# Altium schematic symbol library Project-HTLLib - Copy2.SCHLIB: 83 symbols (part 2 of 2)
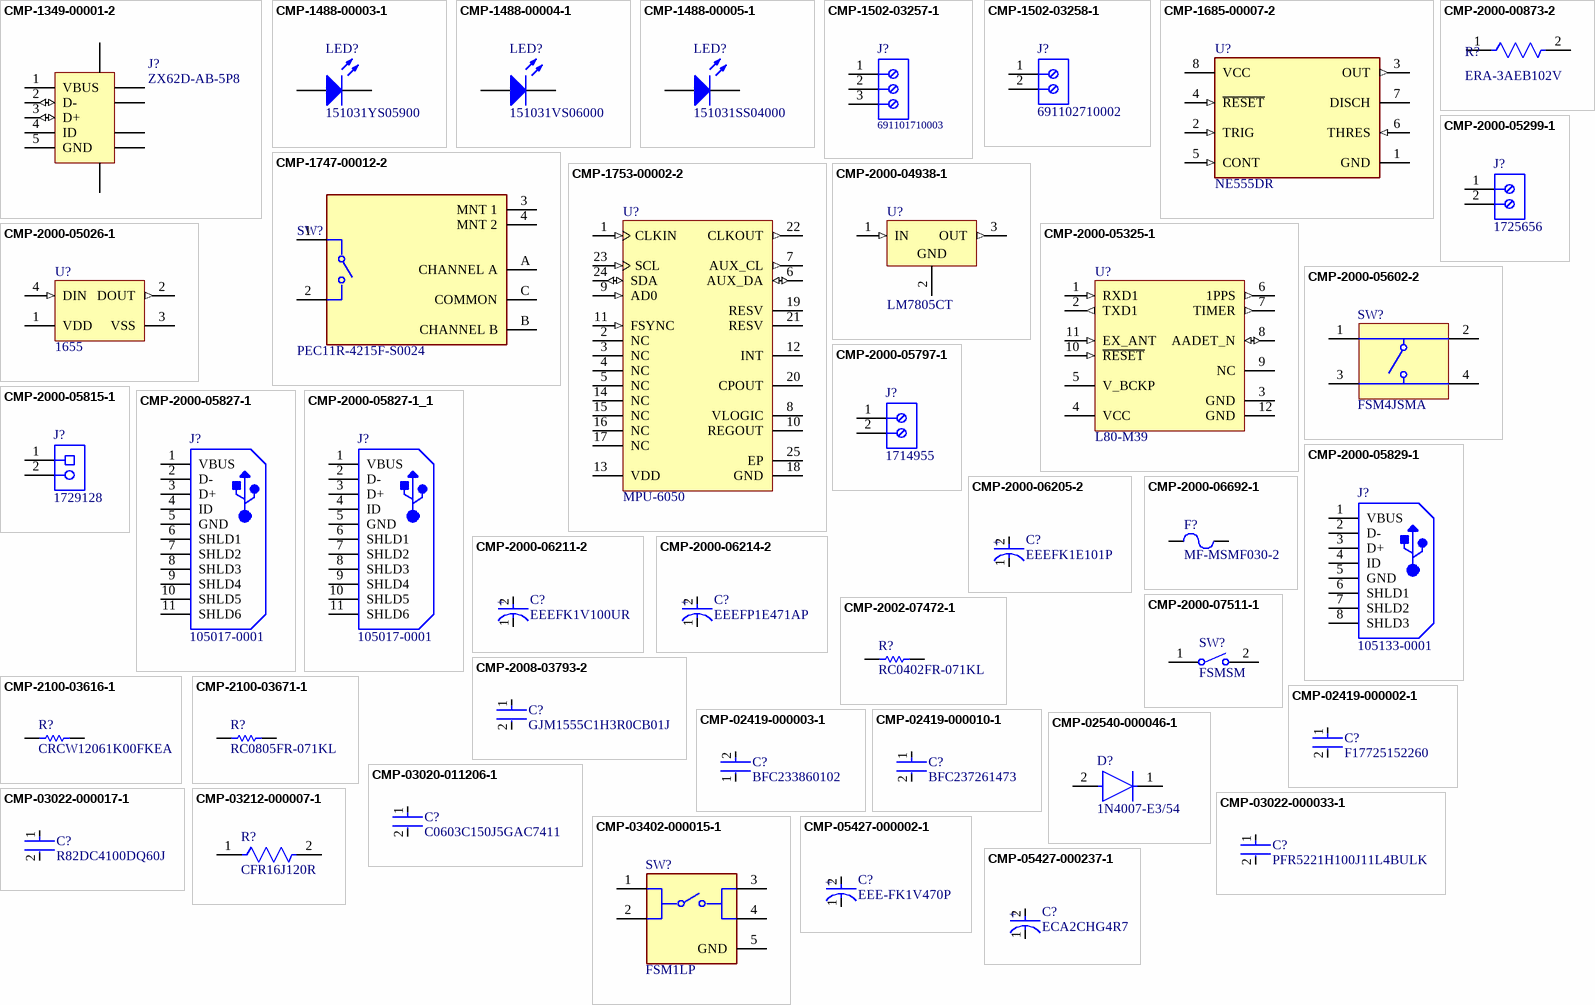
[diagram p3: symbols CMP-1349-00001-2 to CMP-05427-000237-1]

## CMP-2000-05325-1
designator U?, comment L80-M39
GPS Module L80 Hardware Design, 1575.42 MHz, 3 to 4.3 V, -40 to 85 degC, 12-Pin SMD, RoHS, Tape and Reel; Manufacturer: Quectel; Manufacturer: Quectel Wireless Solutions; Maximum Operating Supply Voltage: 4.3V; Screening Level: ExtendedIndustrial; Typical Operating Supply Voltage: 3.3V; Minimum Operating Supply Voltage: 3V; Manufacturer URL: http://www.quectel.com/; Mounting: SurfaceMount; Maximum Operating Frequency: 1575.42MHz; Datasheet Version: Rev. V1.1, 08/2013; Datasheet URL: http://www.quectel.com/uploadimage/downlad/l80_hardware_design_v1.1.pdf; Manufacturer Part Number: L80-M39
footprint QUEC-L80-M39-12_V (SMD, 12-Leads, Body 16x16mm, Pitch 2.54mm)
pins: 1 RXD1 (in) "Receive data", 2 TXD1 (out) "Transmit data", 3 GND (power), 4 VCC (power) "Main power supply", 5 V_BCKP (power) "Backup power supply", 6 1PPS (out) "One pulse per second", 7 TIMER (out) "An open drain output signal can be used to control GPS module main power on/off", 8 AADET_N (io) "Active antenna detection", 9 NC, 10 ~{RESET} (in) "System reset", 11 EX_ANT (in) "External active antenna RF input", 12 GND (power)

## CMP-2000-05602-2
designator SW?, comment FSM4JSMA
Swicth, SPST, 24 V, -35 to 85 degC, 4-Pin SMD, RoHS, Tape and Reel; Manufacturer: TE Connectivity; Switch Travel: 0.25mm; Mechanical Life: 100000Cycles; Contact Current Rating: 50mA; Operating Force: 1.57N; Actuator Material: Polyamide; Contact Resistance: 100mOhm; Voltage Rating: 24V; Illumination Type: Illuminated; Actuator Length: 0.055inch; Max Voltage Rating (DC): 12V; Case\/Package: SMD/SMT; Orientation: Straight; Datasheet URL: http://www.te.com/commerce/DocumentDelivery/DDEController?Action=showdoc&DocId=Customer+Drawing%7F2-1437565-7%7FV%7Fpdf%7FEnglish%7FENG_CD_2-1437565-7_V.pdf%7F4-1437565-2; Min Operating Temperature: -35degC; Packaging: LoosePiece; Termination: GullWing; Throw Configuration: SPST; Package Description: 4-Pin Surface Mount Device, Body 6 x 6 mm, Pitch 4.5 mm; Mounting Technology: SurfaceMount; Contact Plating: Silver; Datasheet Version: Rev. V, 02/2015; RoHSCompliant: true; Max Operating Temperature: 85degC; Length: 6mm; Voltage Rating (DC): 24V; Electrical Life: 100000Cycles; Current Rating: 50mA; Package Quantity: 750; Mount: SurfaceMount; Package Reference: FSM4JSMA; Manufacturer URL: http://www.te.com/; Width: 6mm; REACH SVHC: Unknown; Contact Material: CopperAlloy; Manufacturer Part Number: FSM4JSMA
footprint TECO-FSM4JSMA_V (SMD, 4-Leads, Body 6x6mm, Pitch 4.5mm)
pins: 1, 2, 3, 4

## CMP-2000-05797-1
designator J?, comment 1714955
PC Terminal Block, Pitch 6.35 mm, 1 x 2 Position, Height 21.5 mm, Tail Lenght 5.1 mm, RoHS, Bulk; Manufacturer: Phoenix Contact; Package Description: PC Terminal Block, Pitch 6.35 mm, 1 x 2 Position, Height 21.5 mm, Tail Lenght 5.1 mm; Datasheet URL: http://media.digikey.com/pdf/Data%20Sheets/Phoenix%20Contact%20PDFs/1714955.pdf; Package Reference: 1714955; Manufacturer URL: http://www.phoenixcontact.com/; Datasheet Version: 02/2010; Mounting Technology: ThroughHole; Manufacturer Part Number: 1714955
footprint PHOE-1714955_V (Terminal Block, 2-Leads, Body 12.7x12.5mm, Pitch 6.35mm)
pins: 1, 2

## CMP-2000-05815-1
designator J?, comment 1729128
PCB Terminal Block, 13.5 A, 400 V, 2-Pin THD, RoHS, Bulk; Manufacturer: Phoenix Contact; Package Version: 03/2015; No. of Rows: 1; Pitch: 5.08mm; No. of Positions: 2; Voltage Rating: 400V; Current Rating: 13500mA; Manufacturer URL: http://www.phoenixcontact.com/; Datasheet URL: https://datasheet.ciiva.com/16046/1729128-16046181.pdf; RoHS: TRUE; Package URL: https://www.phoenixcontact.com/online/portal/pi/pxc/product_detail_page/!ut/p/b1/3VdJjqNKFDxLH8AFycySyWY2ozFsEPOMMQaDOX1XedGL_1Vdm5YXJleknhSKeBkvI6EA8ncAo3AYoDhBQGco6KN7VURTdemj9us_IEKEZo_YHiPAEWEFmDGOHMORkqKYCORBZxgL7ZoaZYcbFFUZ3fqxSY6GOuxydWUuHqz1ynmMFygu583Bob0Ewr6Sd_l-5m-kAueHiB0jpRwZwe58wwtkpxtMYd_LmGcDRU02dRNEyWt6Y2ti5pSyJ_reIkzIulrqApdnbT11V5jnCKbYNCvhEM1MCpPByat_X379-iThf08CI5GfOPqfBeS3BRoBOdD55AKVv0iLwCMq-2BrzXWSGRH7pUGD9uwXQjiph3xL0DKQwdGa0JImiIOmBNOestqgwTHSSs2oOep-78apyXQBvNi8ZLaFjvjWvcaUEBu0MC6Wbe-d6mB0FAebo2lUWinqYaZs5DAYzV0RP9yitUjnGJ0iI9xhZkT42OCQNUJJhkgWINNQLP2JFP6OpMg3JCVg70jqHT0lvKOnhHf0lPuOnnLf0VPuWx6_dxwUIvwk5WMkT0kLL1mh61l2yZVSzG3pYV_bqo-mj6uMKwKwdnnW8Jh5RTOJzMOA5c-eJDaZQw4mTMPH02PvS_ZAqNVjVTo2WyYLkwH_KU1mmmG5kjRhDqPXLwwVHvVOjCM60-fpXvTDfMGW1PVFVS1r4e4yVDk4ZdNbkUHvqPqQSeian4UD39fNKmachqdJ1NJbyk8rXT9mXTvPk3oE5meulKGgiruPJek-4I9hTT6G8ZLOyRSm2RRVbThERQad5OS28hdt4YW4vG0stgYYzsWsK4_7y6DZMjJSCqri1kyiZR5vD7pwIrNR7QwPHTcLTI5qT7eRlpHrdGiupYlqQDJ7zy_CND8fWWBoLRXxk1RVcXiBQwbTD4Xi7KL-FuO94t9xaqweXzH; PartNumber: 1729128; Package Description: 2-Pin Through Hole Device, Body 8.1 x 10.16 mm, Pitch 5.08 mm; Datasheet Version: 12/2013; Mounting Technology: ThroughHole; Orientation: Horizontal; Package Reference: 1729128-2; Packing: Bulk; Manufacturer Part Number: 1729128
footprint PHOE-1729128-2_V (Receptacle, 2-Leads, Body 8.1x10.16mm, Pitch 5.08mm)
pins: 1, 2

## CMP-2000-05827-1
designator J?, comment 105017-0001
Micro-USB B Receptacle, Right Angle, Bottom Mount, Surface Mount, with Solder Tabs, -30 to 85 degC, 5-Pin USB, RoHS, Tape and Reel; Manufacturer: Molex; Featured Product: Micro-USBConnectorsUSBConnectors; Other Names: WM1399DKR; Package Version: Rev. F, 12/2012; Number of Contacts: 5; Connector Type: USB-microB; Catalog Drawings: 1050170001; 3D Model: 105017-0001.stp; Mating Products: WM17145-ND-CABLEMICROUSBBTOSTDA1.0MWM17147-ND-CABLEMICROUSBBTOSTDA2.0MWM17146-ND-CABLEMICROUSBBTOSTDA1.5M; PCN Assembly/Origin: ResinSupplier21/Oct/2015; Voltage - Max: 30V; Online Catalog: Molex-MicroUSB; Manufacturer URL: http://www.molex.com/; Package Description: 5-Leads USB, Micro B, Body 7.5 x 5 mm, Pitch 0.65 mm; Datasheet URL: http://www.molex.com/elqNow/elqRedir.htm?ref=http://www.molex.com/webdocs/datasheets/pdf/en-us/1050170001_IO_CONNECTORS.pdf; Ingress Protection: -; Datasheet Version: 03/2016; Mounting Type: BoardCutout,SurfaceMount,RightAngle; Circuits: 5; Standard Package: 1; Package Reference: MICRO-B; Package URL: http://www.molex.com/pdm_docs/sd/1050170001_sd.pdf; Category: Connectors,Interconnects; Series: -; RoHS Information: 1050170001CertofCompliance; Features: Shielded,SolderRetention; Family: USB,DVI,HDMIConnectors; Specifications: -; Gender: Receptacle; Packaging: Digi-Reel®; Mounting Technology: SurfaceMount; Manufacturer Part Number: 1050170001
footprint USB-MICRO-B_V (USB, MICRO B, Body 7.491x4.695 mm, Pitch 0.65 mm)
pins: 1 VBUS, 2 D-, 3 D+, 4 ID, 5 GND, 6 SHLD1, 7 SHLD2, 8 SHLD3, 9 SHLD4, 10 SHLD5, 11 SHLD6

## CMP-2000-05827-1_1
designator J?, comment 105017-0001
Micro-USB B Receptacle, Right Angle, Bottom Mount, Surface Mount, with Solder Tabs, -30 to 85 degC, 5-Pin USB, RoHS, Tape and Reel; Manufacturer: Molex; Featured Product: Micro-USBConnectorsUSBConnectors; Other Names: WM1399DKR; Package Version: Rev. F, 12/2012; Number of Contacts: 5; Connector Type: USB-microB; Catalog Drawings: 1050170001; 3D Model: 105017-0001.stp; Mating Products: WM17145-ND-CABLEMICROUSBBTOSTDA1.0MWM17147-ND-CABLEMICROUSBBTOSTDA2.0MWM17146-ND-CABLEMICROUSBBTOSTDA1.5M; PCN Assembly/Origin: ResinSupplier21/Oct/2015; Voltage - Max: 30V; Online Catalog: Molex-MicroUSB; Manufacturer URL: http://www.molex.com/; Package Description: 5-Leads USB, Micro B, Body 7.5 x 5 mm, Pitch 0.65 mm; Datasheet URL: http://www.molex.com/elqNow/elqRedir.htm?ref=http://www.molex.com/webdocs/datasheets/pdf/en-us/1050170001_IO_CONNECTORS.pdf; Ingress Protection: -; Datasheet Version: 03/2016; Mounting Type: BoardCutout,SurfaceMount,RightAngle; Circuits: 5; Standard Package: 1; Package Reference: MICRO-B; Package URL: http://www.molex.com/pdm_docs/sd/1050170001_sd.pdf; Category: Connectors,Interconnects; Series: -; RoHS Information: 1050170001CertofCompliance; Features: Shielded,SolderRetention; Family: USB,DVI,HDMIConnectors; Specifications: -; Gender: Receptacle; Packaging: Digi-Reel®; Mounting Technology: SurfaceMount; Manufacturer Part Number: 1050170001
footprint USB-MICRO-B_V (USB, MICRO B, Body 7.491x4.695 mm, Pitch 0.65 mm)
footprint USB-MICRO-B_V - RZEP_CN (USB, MICRO B, Body 7.491x4.695 mm, Pitch 0.65 mm)
pins: 1 VBUS, 2 D-, 3 D+, 4 ID, 5 GND, 6 SHLD1, 7 SHLD2, 8 SHLD3, 9 SHLD4, 10 SHLD5, 11 SHLD6

## CMP-2000-05829-1
designator J?, comment 105133-0001
Micro-USB B Receptacle, Vertical, -30 to 85 degC, 5-Pin SMD, RoHS, Tape and Reel; Manufacturer: Molex; Package Version: Rev. C, 11/2015; Voltage Rating: 30VAC; Connector Type: MicroUSBTypeBReceptacle; Current Rating: 1.8A; Number of Ports: 1; Voltage - Max: 30V; Mounting Style: SMD/SMT; Packaging: Reel; Product: MicroUSBTypeBConnectors; Contact Plating: Gold; Flammability Rating: UL94V-0; Package Description: 5-Pin Surface Mount Device, Pitch 0.65 mm; Package Reference: 105133-0001; Contact Material: CopperAlloy; Mounting Angle: Vertical; RoHS: Details; Manufacturer URL: http://www.molex.com/; Factory Pack Quantity: 6000; PartNumber: 105133-0001; Standard: USB; Brand: Molex; Series: 105133; Product Category: USBConnectors; Termination Style: SolderTail; Gender: Receptacle; Package URL: http://www.molex.com/pdm_docs/sd/1051330001_sd.pdf; Datasheet Version: 03/2016; Color: Black; Datasheet URL: http://www.molex.com/webdocs/datasheets/pdf/en-us/1051330001_IO_CONNECTORS.pdf; Mounting Technology: SurfaceMount; Manufacturer Part Number: 105133-0001
footprint MOLX-105133-0001_V (Micro USB B, 5-Leads, Pitch 0.65mm)
pins: 1 VBUS, 2 D-, 3 D+, 4 ID, 5 GND, 6 SHLD1, 7 SHLD2, 8 SHLD3

## CMP-2000-06205-2
designator C?, comment EEEFK1E101P
CAP ALUM 100UF 20% 25V SMD; Manufacturer: Panasonic; Manufacturer Part Number: EEE-FK1E101P; Ripple Current: 300mA; Impedance: 260mR; Leakage Current: 3uA; Dielectric Material: Aluminium; Life (Hours): 2000Hour; Series: FK; Capacitance: 100uF; Max Operating Temperature: 105°C; Voltage Rating (DC): 25V; Packaging: Tape and Reel; Min Operating Temperature: -55°C; Ripple Current (AC): 300mA; Mount: Surface Mount; Lead Free: Lead Free; Construction: Cylindrical; Voltage Rating: 25V; RoHS Compliant: Yes; Case/Package: Radial; Height: 6.2mm; Tolerance: 20%; Diameter: 8mm; Termination: SMD/SMT; Package Quantity: 1; Width: 8.3mm; REACH SVHC: No SVHC; Number of Pins: 2; Voltage: 25V; Radiation Hardening: No; Height - Seated (Max): 0.244inch; Length: 6.2mm; ESR (Equivalent Series Resistance): 260mR
footprint FP-FKE-MFG
pins: 1 C, 2 A
text: +

## CMP-2000-06211-2
designator C?, comment EEEFK1V100UR
CAP ALUM 10UF 20% 35V SMD; Manufacturer: Panasonic; Manufacturer Part Number: EEE-FK1V100UR; Impedance: 1.35R; Ripple Current: 90mA; Leakage Current: 3uA; Polarity: Polar; Material: Aluminium; Life (Hours): 2000Hour; Series: FK; Capacitance: 10uF; ESR (Equivalent Series Resistance): 1.35R; Height: 5.8mm; Voltage Rating: 35V; Max Operating Temperature: 105°C; Ripple Current (AC): 90mA; Voltage: 35V; Height - Seated (Max): 0.24inch; Lead Free: Lead Free; Contact Plating: Tin; REACH SVHC: No SVHC; Construction: Cylindrical; Tolerance: 20%; Voltage Rating (DC): 35V; Number of Pins: 2; Packaging: Tape and Reel; RoHS Compliant: Yes; Min Operating Temperature: -55°C; Package Quantity: 1; Termination: SMD/SMT; Length: 5.8mm; Case/Package: Radial; Diameter: 4mm; Radiation Hardening: No; Width: 5.5mm; Mount: Surface Mount
footprint FP-FKB-MFG
pins: 1 C, 2 A
text: +

## CMP-2000-06214-2
designator C?, comment EEEFP1E471AP
CAP ALUM 470UF 20% 25V SMD; Manufacturer: Panasonic; Manufacturer Part Number: EEE-FP1E471AP; Ripple Current: 1.19A; ESR (Equivalent Series Resistance): 60mR; Polarity: Polar; Material: Aluminium; Life (Hours): 2000Hour; Leakage Current: 117.5uA; Capacitance: 470uF; Series: FP; Mount: Surface Mount; Min Operating Temperature: -55°C; Height - Seated (Max): 0.402inch; Voltage: 25V; Ripple Current (AC): 1.19A; Voltage Rating (DC): 25V; REACH SVHC: No SVHC; Lead Free: Lead Free; Length: 10.5mm; Radiation Hardening: No; Height: 10.2mm; Construction: Cylindrical; Voltage Rating: 25V; Case/Package: Radial; Termination: SMD/SMT; Lead Pitch: 4.6mm; Width: 10.3mm; Package Quantity: 500; RoHS Compliant: Yes; Tolerance: 20%; Contact Plating: Tin; Max Operating Temperature: 105°C; Packaging: Tape and Reel; Diameter: 10mm; Number of Pins: 2
footprint FP-FPG-MFG
pins: 1 C, 2 A
text: +

## CMP-2000-06692-1
designator F?, comment MF-MSMF030-2
MF-MSMF Series - PTC Resettable Fuse, 30 V, -40 to 85 degC, 2-Pin SMD (1812), RoHS, Tape and Reel; Manufacturer: Bourns; Holding Current: 300mA; Operating Voltage: 30V; Initial Resistance Max: 3ohm; Tripping Current: 600mA; Carrying Current Max: 10A; Current Rating: 10000mA; Tripped Power Dissipation: 800mW; PTC Fuse Case: 1812^4532Metric]; SVHC: NoSVHC(20-Jun-2013); Package Reference: MF-MSMF030-2; Voltage Rating: 30V; Manufacturer URL: http://www.bourns.com/; Datasheet Version: Rev. O, 08/2006; Package Description: 2-Pin SMD, Body 4.55 x 3.24 mm; Datasheet URL: https://datasheet.ciiva.com/19479/1164197-19479043.pdf; Series: MF-MSMF; PartNumber: MF-MSMF; Mounting Technology: SurfaceMount; Manufacturer Part Number: MF-MSMF030-2
footprint BOUR-MF-MSMF030-2_V (SMD, 2-Leads, Body 4.55x3.24mm)
pins: 1, 2

## CMP-2000-07511-1
designator SW?, comment FSMSM
FSMSM Push Button Switch, 50 mA, -35 to 85 degC, 2-Pin SMD, RoHS, Bulk; Manufacturer: TE Connectivity; Manufacturer: TE Connectivity Alcoswitch; Actuator Length: 1.07mm; Electrical Life: 20000Cycles; Actuator Material: Polyamide; Current Rating: 50mA; Illumination Type: Illuminated; Voltage Rating (DC): 24V; Contact Resistance: 100mOhm; Case\/Package: SMD/SMT; Operating Force: 180gf; Switch Travel: 0.25mm; Max Voltage Rating (DC): 12V; Throw Configuration: SPST; Packaging: LoosePiece; Max Operating Temperature: 85degC; ELV: Compliant; Package Description: 2-Pin Surface Mount Device, Body 6 x 3.5 mm, Pitch 9.19 mm; RoHSCompliant: true; Manufacturer URL: http://www.te.com/; Contact Plating: Silver; Contact Material: Brass; Mounting Technology: SurfaceMount; Contact Current Rating: 50mA; Datasheet Version: Rev. C2, 08/2014; Datasheet URL: http://www.te.com/commerce/DocumentDelivery/DDEController?Action=showdoc&DocId=Customer+Drawing%7F1437566-3%7FC2%7Fpdf%7FEnglish%7FENG_CD_1437566-3_C2_1437566_3_1_c.dwg.pdf%7F1437566-3; Mechanical Life: 20000Cycles; Package Reference: FSMSM; REACH SVHC: Unknown; Orientation: Straight; Min Operating Temperature: -35degC; Lead Free: LeadFree; Termination: GullWing; Package Quantity: 1000; Mount: SurfaceMount; Manufacturer Part Number: FSMSM
footprint TECO-FSMSM-2_V (SMD, 2-Leads, Body 6x3.5mm, Pitch 9.19mm)
pins: 1, 2

## CMP-2002-07472-1
designator R?, comment RC0402FR-071KL
Manufacturer: Yageo / Phycomp; Manufacturer: Yageo; Part Number: RC0402FR-071KL; Manufacturer Part Number: RC0402FR-071KL
footprint RESC1005X40X25NL05T10 (Chip Resistor, 2-Leads, Body 1.00x0.50mm, IPC Medium Density)
footprint RESC1005X40X25ML05T10 (Chip Resistor, 2-Leads, Body 1.00x0.50mm, IPC Low Density)
footprint RESC1005X40X25LL05T10 (Chip Resistor, 2-Leads, Body 1.00x0.50mm, IPC High Density)
pins: 1, 2
1 alternate drawing of the same symbol

## CMP-2008-03793-2
designator C?, comment GJM1555C1H3R0CB01J
Multi-Layer Ceramic Capacitor 3pF C0G  ±0.25pF 0402 Paper T/R; Manufacturer: Murata; Voltage Rating (DC): 50V; Radiation Hardening: No; Max Operating Temperature: 125°C; Dielectric: C0G; Case/Package: 0402; Case Code (Metric): 1005; Mount: Surface Mount; Case Code (Imperial): 0402; Package Quantity: 50000; Capacitance: 3pF; Length: 0.039inch; Height: 0.5mm; Voltage Rating: 50V; Packaging: Tape and Reel; Thickness: 0.022inch; Depth: 0.5mm; Termination: SMD/SMT; Width: 0.02inch; Min Operating Temperature: -55°C; Manufacturer Part Number: GJM1555C1H3R0CB01J
footprint FP-GJM155-0_05-IPC_B
footprint FP-GJM155-0_05-IPC_A
footprint FP-GJM155-0_05-IPC_C
footprint FP-GJM155-0_05-MFG
pins: 1, 2

## CMP-2100-03616-1
designator R?, comment CRCW12061K00FKEA
Chip Resistor, 1 KOhm, +/- 1%, 0.25 W, -55 to 155 degC, 1206 (3216 Metric), RoHS, Tape and Reel; Manufacturer: Vishay Semiconductor; Manufacturer: Vishay; Power Rating: 250mW; Voltage Rating (DC): 200V; Resistance: 1KOhm; Temperature Coefficient: 100ppm/degreesC; Case Code (Imperial): 1206; Length: 3.2mm; Case/Package: 1206; Contact Plating: Tin; Package Quantity: 10; Datasheet URL: http://www.farnell.com/datasheets/1720486.pdf; Mount: SurfaceMount; Package Description: 2-Pin Surface Mount Device, Body 3.15 x 1.6 mm; Package Reference: 1206.0; Max Operating Temperature: 155degC; Lead Free: LeadFree; Weight: 0.000353oz; Military Standard: Not; Max Power Dissipation: 250mW; Case Code (Metric): 3216; Number of Terminations: 2; Tolerance: 1%; Width: 0.063inch; Termination: SMD/SMT; Number of Pins: 2; Min Operating Temperature: -55degC; Height: 0.55mm; Depth: 1.6mm; RoHSCompliant: true; Composition: ThickFilm; Packaging: TapeandReel; Manufacturer URL: http://www.vishay.com/; Voltage Rating: 200V; Radiation Hardening: No; REACH SVHC: Unknown; Datasheet Version: 41061.0; Manufacturer Part Number: CRCW12061K00FKEA
footprint RESC3216X60X45ML15T20 (Chip Resistor, 2-Leads, Body 3.3x1.75mm, IPC Low Density)
footprint RESC3216X60X45NL15T20 (Chip Resistor, 2-Leads, Body 3.3x1.75mm, IPC Medium Density)
footprint RESC3216X60X45LL15T20 (Chip Resistor, 2-Leads, Body 3.3x1.75mm, IPC High Density)
pins: 1, 2

## CMP-2100-03671-1
designator R?, comment RC0805FR-071KL
Chip Resistor, 1 KOhm, +/- 1%, 125 mW, -55 to 155 degC, 0805 (2012 Metric), RoHS, Tape and Reel; Manufacturer: Yageo; Temperature Coefficient: 100ppm/degreesC; Voltage Rating (DC): 150V; Max Power Dissipation: 125mW; Resistance: 1KOhm; Number of Pins: 2; Number of Terminations: 2; Datasheet URL: http://www.yageo.com/NewPortal/yageodocoutput?fileName=/pdf/R-Chip/PYu-RC_Group_51_RoHS_L_5.pdf; Length: 0.079inch; Package Description: 2-Pin Surface Mounted Device, Body 2 x 1.25 mm; Depth: 1.25mm; Height: 0.024inch; Military Standard: Not; Case/Package: 0805; Package Reference: 0805; RoHSCompliant: true; Lead Free: LeadFree; Packaging: TapeandReel; Package Quantity: 1; Datasheet Version: Rev. 5, 10/2016; Tolerance: 1%; Min Operating Temperature: -55degC; Voltage Rating: 150V; Composition: ThickFilm; Case Code (Imperial): 0805; Power Rating: 125mW; Width: 0.049inch; Case Code (Metric): 2012; Manufacturer URL: http://www.yageo.com/; Max Operating Temperature: 155degC; REACH SVHC: Unknown; Termination: SMD/SMT; Manufacturer Part Number: RC0805FR-071KL
footprint RESC2013X60X35ML10T20 (Chip Resistor, 2-Leads, Body 2.1x1.35mm, IPC Low Density)
footprint RESC2013X60X35NL10T20 (Chip Resistor, 2-Leads, Body 2.1x1.35mm, IPC Medium Density)
footprint RESC2013X60X35LL10T20 (Chip Resistor, 2-Leads, Body 2.00x1.25mm, IPC High Density)
pins: 1, 2

## CMP-02419-000002-1
designator C?, comment F17725152260
CAP FILM 1.5UF 20% 630VDC RADIAL; Manufacturer: Vishay Roederstein; Dielectric: PET; Dielectric Material: Polyester; Lead Diameter: 0.8mm; Voltage Rating (DC): 630V; Voltage Rating (AC): 310V; Mount: Through Hole; Height - Seated (Max): 1.102inch; Max Operating Temperature: 110°C; Case/Package: Radial; Width: 0.709inch; Lead Pitch: 27.5mm; Series: F1772; Termination: PC Pins; Min Operating Temperature: -40°C; Tolerance: 20%; Packaging: Bulk; Capacitance: 1.5uF; RoHS Compliant: Yes; Depth: 18mm; Construction: RADIAL; Length: 1.24inch; Radiation Hardening: No; Manufacturer Part Number: F17725152260
footprint FP-F17725152260-MFG
pins: 1, 2

## CMP-02419-000003-1
designator C?, comment BFC233860102
CAP FILM 1000PF 20% 1KVDC RADIAL; Manufacturer: Vishay BCcomponents; Capacitance: 1nF; Voltage Rating (AC): 300V; Lead Diameter: 0.5mm; Lead Length: 3.5mm; Voltage Rating (DC): 1kV; Insulation Resistance: 15GR; Dielectric Material: PP; Height - Seated (Max): 0.354inch; Lead Free: Lead Free; RoHS Compliant: Yes; Max Operating Temperature: 105°C; Length: 10mm; Contact Plating: Tin; Case/Package: Radial; Mount: Through Hole; Height: 9mm; Depth: 4mm; Series: MKP338 6 Y2; Package Quantity: 1500; Construction: RADIAL; Lead Pitch: 7.5mm; Packaging: Bulk; Width: 0.157inch; Radiation Hardening: No; Tolerance: 20%; Termination: Radial; Min Operating Temperature: -55°C; Dielectric: PP; Voltage: 300V; Manufacturer Part Number: BFC233860102
footprint FP-BFC233860102-MFG
pins: 1, 2

## CMP-02419-000010-1
designator C?, comment BFC237261473
CAP FILM 0.047UF 10% 630VDC RAD; Manufacturer: Vishay; Voltage Rating: 630V; Capacitance: 47nF; Dielectric: PET; Type: General Purpose; Lead Diameter: 0.6mm; Dielectric Material: Polyester; Voltage Rating (AC): 250V; Depth: 6mm; Package Quantity: 750; Construction: RADIAL; Height - Seated (Max): 0.47inch; Mount: Through Hole; Lead Pitch: 10mm; Radiation Hardening: No; Tolerance: 10%; Case/Package: Radial; Width: 6mm; Series: MKT372; Voltage Rating (DC): 630V; Packaging: Bulk; Termination: Radial; Height: 12mm; Voltage: 630V; Max Operating Temperature: 105°C; Contact Plating: Tin; Length: 12.5mm; RoHS Compliant: Yes; Min Operating Temperature: -55°C; Manufacturer Part Number: BFC237261473
footprint FP-BFC237261473-MFG
pins: 1, 2

## CMP-02540-000046-1
designator D?, comment 1N4007-E3/54
DIODE GEN PURP 1KV 1A DO204AL; Manufacturer: Vishay; Manufacturer: Vishay Semiconductors; Value: 15pF; Max Junction Temp: +150°C; Max Surge Forward Current: 30A; Max Repetitive Reverse Voltage: 1000V; Peak Reverse Current: 30uA; Octopart: https://octopart.com/1n4007-e3%2F54-vishay-39548207; Digikey Description: DIODE GEN PURP 1KV 1A DO204AL; Category: Diode; Mouser Description: Rectifiers Vr/1000V Io/1A; Automotive: No; Package: 1N4007; Device Class L3: Rectifier Diodes; Temperature Range High: +150°C; Capacitance: 15pF; Ipc Land Pattern Name: DIOPA1088W105L520D270; Lead Free: Yes; ComponentLink2Description: Datasheet; Forward Current: 1A; Device Class L1: Discrete Semiconductors; ComponentLink2URL: http://www.vishay.com/docs/88503/1n4001.pdf; Temperature Range Low: -50°C; Height: 2.7mm; RoHS: TRUE; Temperature: -50°C to +150°C; Device Class L2: Diodes; Manufacturer Part Number: 1N4007-E3/54
footprint FP-1N4007-MFG
pins: 1 C, 2 A

## CMP-03020-011206-1
designator C?, comment C0603C150J5GAC7411
C0603 15 pF C0G 30ppm/°C 5.00% 50 V; Manufacturer: KEMET; Automotive Grade: Grade 1; Material: Ceramic; Capacitance: 15 pF; Tolerance: 0.05; Voltage Rating: 50 V; Value: 15 pF; Package: C0603C-CF; Automotive: Yes; Temperature Range Low: -55°C; Device Class L2: Capacitors; Device Class L3: Ceramic Capacitors; Height: 0.87mm; ComponentLink2URL: https://api.kemet.com/component-edge/download/datasheet/C0603C100J5GACAUTO.pdf; ComponentLink2Description: Datasheet; Device Class L1: Passive Components; Lead Free: Yes; RoHS: TRUE; Octopart: https://octopart.com/c0603c150j5gac7411-kemet-3823841; Temperature Range High: +125°C; Category: Cap; Temperature: -55°C to +125°C; Temperature Characteristic: C0G; Manufacturer Part Number: C0603C150J5GAC7411; Temperature Coefficient: 30ppm/°C
footprint FP-C0603C-CF-MFG
footprint FP-C0603C-CF-IPC_C
footprint FP-C0603C-CF-IPC_B
footprint FP-C0603C-CF-IPC_A
pins: 1, 2

## CMP-03022-000017-1
designator C?, comment R82DC4100DQ60J
CAP FILM 1UF 5% 63VDC RADIAL; Manufacturer: KEMET; Voltage Rating (DC): 63V; Lead Diameter: 0.5mm; Insulation Resistance: 30R; Dielectric: PET; Voltage Rating (AC): 40V; Dissipation Factor: 80%; Life (Hours): 2000Hour; Type: General Purpose; Mount: Through Hole; Case/Package: Radial; Package Quantity: 1700; Construction: RADIAL; Capacitance: 1uF; Lead Pitch: 5mm; Depth: 5mm; Series: R82; Packaging: Tape and Reel; RoHS Compliant: Yes; Voltage Rating: 63V; Height - Seated (Max): 0.398inch; Voltage: 63V; Radiation Hardening: No; Width: 5mm; REACH SVHC: No SVHC; Min Operating Temperature: -55°C; Tolerance: 5%; Dielectric Material: PET; Contact Plating: Tin; Termination: Radial; Length: 7.2mm; Max Operating Temperature: 105°C; Manufacturer Part Number: R82DC4100DQ60J
footprint FP-R82DC4100DQ60J-MFG
pins: 1, 2

## CMP-03022-000033-1
designator C?, comment PFR5221H100J11L4BULK
CAP FILM 220PF 2.5% 100VDC RAD; Manufacturer: KEMET; Voltage Rating (AC): 63V; Voltage Rating (DC): 100V; Dielectric Material: PP; Series: PFR; RoHS Compliant: Yes; Length: 0.283inch; Height: 4.5mm; Mount: Through Hole; Capacitance: 220pF; Termination: PC Pins; Width: 0.177inch; Height - Seated (Max): 0.236inch; Package Quantity: 1000; Case/Package: Radial; Min Operating Temperature: -55°C; Lead Pitch: 0.197inch; Dielectric: PP; Max Operating Temperature: 100°C; Packaging: Bulk; Tolerance: 2.5%; Lead Free: Lead Free; Manufacturer Part Number: PFR5221H100J11L4BULK
footprint FP-PFR5221H100J11L4BULK-MFG
pins: 1, 2

## CMP-03212-000007-1
designator R?, comment CFR16J120R
RES 120 OHM 1/4W 5% AXIAL; Manufacturer: TE Connectivity; Resistance: 120R; Power Rating: 250mW; Number of Resistors: 1; Voltage Rating: 200V; Temperature Coefficient: 0ppm/°C; RoHS Compliant: Yes; Mount: Axial; Package Quantity: 5000; Diameter: 1.85mm; Number of Terminations: 2; Packaging: Cut Tape; Max Operating Temperature: 155°C; Resistance Tolerance: 5%; Termination: Axial; Length: 3.5mm; Max Power Dissipation: 250mW; Min Operating Temperature: -55°C; Resistor Type: Thin Film; Technology: CARBON FILM; Case/Package: Axial; Tolerance: 5%; Series: CFR16, Neohm; Voltage Rating (DC): 200V; ELV: Compliant; REACH SVHC: No SVHC; Manufacturer Part Number: CFR16J120R
footprint FP-CFR16-MFG
pins: 1, 2

## CMP-03402-000015-1
designator SW?, comment FSM1LP
SWITCH TACTILE SPST-NO 0.05A 24V; Manufacturer: TE Connectivity Alcoswitch; Electrical Life: 100000Cycles; Actuator Type: Standard; Contact Resistance: 100mR; Current Rating: 50mA; Operating Force: 1.57N; Actuator Material: Polyphthalamide; Illumination Type: Non-Illuminated; Actuator Length: 0.01inch; Voltage Rating (DC): 12V; Throw Configuration: SPST; Switch Travel: 0.25mm; Switch Function: Off-Mom; Actuator Color: Black; Length: 6.19mm; Min Operating Temperature: -35°C; Contact Material: Copper Alloy; Max Current Rating: 50mA; Max Operating Temperature: 85°C; Packaging: Loose Piece; Lead Free: Lead Free; Mount: Surface Mount; RoHS Compliant: Yes; Orientation: Straight; Package Quantity: 2000; Mechanical Life: 100000Cycles; Type: Switch; ELV: Compliant; Depth: 8mm; Contact Plating: Silver; Max Voltage Rating (DC): 12V; REACH SVHC: No SVHC; Series: FSM1LP; Contact Current Rating: 50mA; Termination: Gull Wing; Manufacturer Part Number: FSM1LP
footprint FP-FSM1LP-MFG
pins: 1, 2, 3, 4, 5 GND (power)

## CMP-05427-000002-1
designator C?, comment EEE-FK1V470P
CAP ALUM 47UF 20% 35V SMD; Manufacturer: Panasonic; Life: 2000Hours; Leakage Current: 16.45uA; Automotive Grade: Grade 2; Esr: 0.36Ω; Ripple Current: 240mA; Material: Aluminum; Dissipation Factor: 12%; Category: Cap; Device Class L3: Aluminum Electrolytic Capacitors; Value: 47uF; Device Class L2: Capacitors; ComponentLink2Description: Datasheet; Capacitance: 47uF; Temperature Range Low: -55°C; Device Class L1: Passive Components; Height: 6.1mm; Temperature Range High: +105°C; Lead Free: Yes; Octopart: https://octopart.com/eeefk1v470p-panasonic-4642848; Manufacturer Part Number: EEE-FK1V470P; Tolerance: 20%; Temperature: -55°C to +105°C; Voltage Rating: 35V; ComponentLink2URL: https://industrial.panasonic.com/cdbs/www-data/pdf/RDE0000/ABA0000C1181.pdf; Automotive: Yes; Mouser Description: Capacitor Aluminum Electrolytic 47uF 35 Volt 20% (6.3 X 5.8mm) Surface Mount 240mA 2000h 105C Automotive; RoHS: TRUE; Digikey Description: CAP ALUM 47UF 20% 35V SMD; Package: FK-D
footprint FP-FK-D-MFG
pins: 1 C, 2 A
text: +

## CMP-05427-000237-1
designator C?, comment ECA2CHG4R7
Aluminum Electrolytic Capacitors (Radial Lead Type) 4.7uF ±20% 160V; Manufacturer: Panasonic; Manufacturer Part Number: ECA-2CHG4R7; Life (Hours): 2000Hour; Ripple Current: 43mA; Dielectric Material: Aluminium; Lead/Base Style: Straight; Lead Diameter: 0.5mm; Dissipation Factor: 0.15%; Height - Seated (Max): 0.48inch; Voltage: 160V; REACH SVHC: No SVHC; Package Quantity: 200; Length: 11.2mm; Termination: Radial; Weight: 0.01lb; Construction: RADIAL; Voltage Rating (DC): 160V; Number of Pins: 2; Voltage Rating: 160V; Min Operating Temperature: -25°C; Packaging: Bulk; Radiation Hardening: No; Series: NHG; Max Operating Temperature: 105°C; Height: 11.2mm; Mount: Through Hole; Tolerance: 20%; Capacitance: 4.7uF; Width: 0.25inch; Lead Pitch: 2.5mm; Diameter: 6.3mm; Ripple Current (AC): 43mA; Case/Package: Radial; Lead Free: Lead Free; RoHS Compliant: Yes
footprint FP-RAD-TH-D_6_3_0_5-L_11-MFG
pins: 1 C, 2 A
text: +

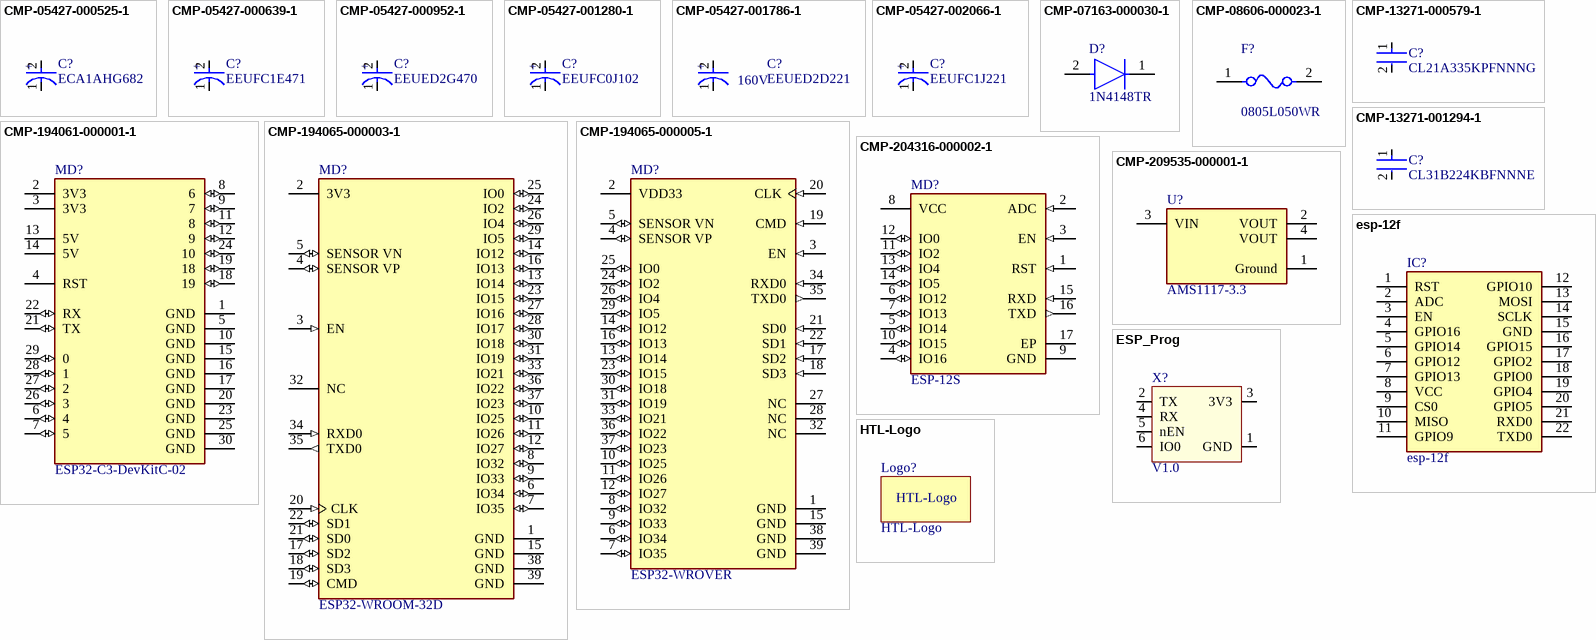
[diagram p2: symbols CMP-05427-000525-1 to HTL-Logo]

## CMP-05427-000525-1
designator C?, comment ECA1AHG682
Aluminum Electrolytic Capacitors (Radial Lead Type) AEC-Q200 Qualified 6800uF ±20% 10V; Manufacturer: Panasonic; Manufacturer Part Number: ECA-1AHG682; Life (Hours): 2000Hour; Leakage Current: 3uA; Ripple Current: 1.57A; Polarity: Polar; Lead/Base Style: Straight; Lead Diameter: 0.8mm; Dissipation Factor: 0.34%; Dielectric Material: Aluminium; Capacitance: 6.8mF; Contact Plating: Tin; Voltage: 10V; Min Operating Temperature: -55°C; Package Quantity: 100; Construction: RADIAL; REACH SVHC: No SVHC; Number of Pins: 2; Tolerance: 20%; Lead Pitch: 7.5mm; Voltage Rating: 10V; Width: 0.5inch; Mount: Through Hole; Voltage Rating (DC): 10V; Weight: 0.01lb; Case/Package: Radial; Radiation Hardening: No; Packaging: Bulk; Height: 25mm; RoHS Compliant: Yes; Termination: Radial; Length: 25mm; Height - Seated (Max): 1.063inch; Max Operating Temperature: 105°C; Diameter: 16mm; Lead Free: Lead Free; Series: NHG; Ripple Current (AC): 1.57A
footprint FP-RAD-TH-D_16_0_5-L_25_2-MFG
pins: 1 C, 2 A
text: +

## CMP-05427-000639-1
designator C?, comment EEUFC1E471
Aluminum Electrolytic Capacitors (Radial Lead Type) AEC-Q200 Qualified 470uF ±20% 25V; Manufacturer: Panasonic; Manufacturer Part Number: EEU-FC1E471; Dielectric Material: Aluminium; Leakage Current: 3uA; ESR (Equivalent Series Resistance): 68mR; Lead Diameter: 0.6mm; Ripple Current: 1.05A; Life (Hours): 3000Hour; Termination: Radial; Length: 16mm; RoHS Compliant: Yes; Series: FC; Tolerance: 20%; Package Quantity: 200; Radiation Hardening: No; Case/Package: Radial; Voltage Rating: 25V; Voltage: 25V; Contact Plating: Tin; Construction: RADIAL; Max Operating Temperature: 105°C; Min Operating Temperature: -55°C; REACH SVHC: No SVHC; Height: 16mm; Ratings: AEC-Q200; Packaging: Bulk; Mount: Through Hole; Diameter: 10mm; Capacitance: 470uF; Impedance: 68mR; Height - Seated (Max): 0.63inch; Lead Free: Lead Free; Ripple Current (AC): 1.05A; Voltage Rating (DC): 25V; Lead Pitch: 5mm; Size: 16mm
footprint FP-RAD-TH-D_10_0_5-L_16_1-MFG
pins: 1 C, 2 A
text: +

## CMP-05427-000952-1
designator C?, comment EEUED2G470
Aluminum Electrolytic Capacitors (Radial Lead Type) 47uF ±20% 400V; Manufacturer: Panasonic; Manufacturer Part Number: EEU-ED2G470; Lead Diameter: 0.8mm; Leakage Current: 10uA; Dissipation Factor: 0.24%; Ripple Current: 840mA; Life (Hours): 10000Hour; Dielectric Material: Aluminium; Construction: RADIAL; Tolerance: 20%; Series: ED; Package Quantity: 100; Termination: Radial; Height: 25mm; Length: 25mm; Min Operating Temperature: -25°C; Max Operating Temperature: 105°C; Diameter: 16mm; Voltage: 400V; REACH SVHC: No SVHC; Voltage Rating: 400V; Number of Pins: 2; Case/Package: Radial; Height - Seated (Max): 0.984inch; Lead Pitch: 7.5mm; Lead Free: Lead Free; Ripple Current (AC): 840mA; Packaging: Bulk; Capacitance: 47uF; RoHS Compliant: Yes; Mount: Through Hole; Voltage Rating (DC): 400V; Contact Plating: Tin
footprint FP-RAD-TH-D_16_0_5-L_25_2-MFG
pins: 1 C, 2 A
text: +

## CMP-05427-001280-1
designator C?, comment EEUFC0J102
Aluminum Electrolytic Capacitors (Radial Lead Type) AEC-Q200 Qualified 1000uF ±20% 6.3V; Manufacturer: Panasonic; Manufacturer Part Number: EEU-FC0J102; Ripple Current (AC): 755mA; Life (Hours): 3000Hour; Impedance: 90mR; Dielectric Material: Aluminium; Polarity: Polar; Leakage Current: 3uA; Capacitance: 1mF; Lead Diameter: 0.6mm; Voltage: 6.3V; Size: 12.5mm; Package Quantity: 200; Height - Seated (Max): 0.492inch; Ratings: AEC-Q200; Voltage Rating (DC): 6.3V; Lead Free: Lead Free; Min Operating Temperature: -55°C; Series: FC; Ripple Current: 755mA; Packaging: Bulk; Height: 12.5mm; Voltage Rating: 6.3V; Termination: Radial; Mount: Through Hole; Lead Pitch: 5mm; REACH SVHC: No SVHC; ESR (Equivalent Series Resistance): 90mR; RoHS Compliant: Yes; Contact Plating: Tin; Number of Pins: 2; Tolerance: 20%; Case/Package: Radial; Length: 12.5mm; Diameter: 10mm; Construction: RADIAL; Radiation Hardening: No; Max Operating Temperature: 105°C
footprint FP-RAD-TH-D_10_0_5-L_12_5-MFG
pins: 1 C, 2 A
text: +

## CMP-05427-001786-1
designator C?, comment EEUED2D221
Aluminum Electrolytic Capacitors (Radial Lead Type) 220uF ±20% 200V; Manufacturer: Panasonic; Manufacturer Part Number: EEU-ED2D221; Dissipation Factor: 0.15%; Polarity: Polar; Lead Diameter: 0.8mm; Life (Hours): 10000Hour; Dielectric Material: Aluminium; Ripple Current: 2A; Series: ED; Tolerance: 20%; Package Quantity: 100; Termination: Radial; Voltage: 200V; Length: 31.5mm; Radiation Hardening: No; Voltage Rating: 200V; Construction: RADIAL; RoHS Compliant: Yes; Max Operating Temperature: 105°C; Min Operating Temperature: -25°C; Mount: Through Hole; Case/Package: Radial; Packaging: Bulk; Height - Seated (Max): 1.24inch; Voltage Rating (DC): 200V; Ripple Current (AC): 2A; Lead Free: Lead Free; Diameter: 18mm; Lead Pitch: 7.5mm; REACH SVHC: No SVHC; Capacitance: 220uF; Height: 31.5mm
footprint FP-RAD-TH-D_18_0_5-L_31_5-MFG
pins: 1 C, 2 A
text: +; 160V

## CMP-05427-002066-1
designator C?, comment EEUFC1J221
Aluminum Electrolytic Capacitors (Radial Lead Type) AEC-Q200 Qualified 220uF ±20% 63V; Manufacturer: Panasonic; Manufacturer Part Number: EEU-FC1J221; Ripple Current (AC): 1.05A; ESR (Equivalent Series Resistance): 130mR; Dielectric Material: Aluminium; Leakage Current: 3uA; Life (Hours): 3000Hour; Polarity: Polar; Lead Diameter: 0.6mm; Voltage: 63V; Tolerance: 20%; Voltage Rating (DC): 63V; REACH SVHC: No SVHC; Series: FC; Height - Seated (Max): 0.984inch; Capacitance: 220uF; Height: 25mm; Min Operating Temperature: -55°C; Max Operating Temperature: 105°C; Length: 25mm; Voltage Rating: 63V; RoHS Compliant: Yes; Mount: Through Hole; Lead Pitch: 5mm; Contact Plating: Tin; Case/Package: Radial; Package Quantity: 200; Ripple Current: 1.05A; Packaging: Bulk; Lead Free: Lead Free; Construction: RADIAL; Impedance: 130mR; Termination: Radial; Diameter: 10mm
footprint FP-RAD-TH-D_10_0_5-L_25_2-MFG
pins: 1 C, 2 A
text: +

## CMP-07163-000030-1
designator D?, comment 1N4148TR
DIODE GEN PURP 100V 200MA DO35; Manufacturer: ON Semiconductor; Peak Reverse Current: 5uA; Value: 4pF; Max Junction Temp: +175°C; Max Surge Forward Current: 1A; Footprint Url: https://www.onsemi.com/pub/Collateral/017AG.PDF; Temperature Range Low: -55°C; Max Repetitive Reverse Voltage: 100V; Temperature Range High: +175°C; Reverse Voltage: 100V; ComponentLink2URL: https://www.onsemi.com/pub/Collateral/1N914A-D.pdf; Category: Diode; Package: 017AG; Octopart: https://octopart.com/1n4148tr-on+semiconductor-84323125; Device Class L1: Discrete Semiconductors; Manufacturer Part Number: 1N4148TR; Forward Current: 200mA; Temperature: -55°C to +175°C; Lead Free: Yes; Digikey Description: DIODE GEN PURP 100V 200MA DO35; Mouser Description: 1N4148 Series 100 V 500 mW Small Signal Fast Switching Diode - DO-35; Automotive: No; Device Class L2: Diodes; Device Class L3: Rectifier Diodes; Height: 1.91mm; ComponentLink2Description: Datasheet; RoHS: TRUE; Capacitance: 4pF
footprint FP-017AG-MFG
pins: 1 C, 2 A

## CMP-08606-000023-1
designator F?, comment 0805L050WR
PTC RESET FUSE 6V 500MA 0805; Manufacturer: Littelfuse Inc.; Manufacturer: Littelfuse; Current Rating: 100A; Hold Current: 0.5A; Value: 0.15-0.85Ω; Trip Time: 0.1s; Trip Current: 1A; Device Class L2: PTC Resettable Fuses; Manufacturer Part Number: 0805L050WR; Digikey Description: PTC RESET FUSE 6V 500MA 0805; ComponentLink2URL: https://www.littelfuse.com/~/media/electronics/datasheets/resettable_ptcs/littelfuse_ptc_0805l_datasheet.pdf.pdf; Package: 0805L; RoHS: TRUE; Temperature Range Low: -40°C; Octopart: https://octopart.com/0805l050wr-littelfuse-673858; Resistance: 0.15-0.85Ω; ComponentLink2Description: Datasheet; Category: Fuse; Height: 1.25mm; Mouser Description: PTC Resettable Fuse 0.5A(hold) 1A(trip) 6VDC 100A 0.5W 0.1s 0.15Ohm SMD Solder Pad 0805 T/R; Ambient Temperature Range High: +85°C; Automotive: No; Device Class L3: unset; Lead Free: Yes; Temperature: -40°C to +85°C; Voltage Rating: 6V; Ambient Temperature Range Low: -40°C; Temperature Range High: +85°C; Device Class L1: Circuit Protection
footprint FP-0805L-MFG
pins: 1, 2

## CMP-13271-000579-1
designator C?, comment CL21A335KPFNNNG
CL21 Series 0805 3.3uF 10V ±10% Tolerance X5R Multilayer Ceramic Chip Capacitor; Manufacturer: Samsung; Case Code (Metric): 2012; Width: 0.049inch; Capacitance: 3.3uF; Mount: Surface Mount; Tolerance: 10%; Min Operating Temperature: -55°C; Depth: 1.25mm; Length: 0.079inch; Case/Package: 0805; Max Operating Temperature: 85°C; Dielectric: X5R; Case Code (Imperial): 0805; Packaging: Tape and Reel; Thickness: 0.053inch; Voltage Rating: 10V; Package Quantity: 3000; Manufacturer Part Number: CL21A335KPFNNNG
footprint FP-CL21-IPC_A
footprint FP-CL21-IPC_C
footprint FP-CL21-IPC_B
pins: 1, 2

## CMP-13271-001294-1
designator C?, comment CL31B224KBFNNNE
Cap Ceramic 220nF 50V X7R ±10% SMD 1206 +125°C Embossed T/R; Manufacturer: Samsung; Width: 0.063inch; Case Code (Metric): 3216; Packaging: Tape and Reel; Length: 3.2mm; Case/Package: 1206; Material: Ceramic; Voltage: 50V; Case Code (Imperial): 1206; Dielectric: X7R; Lead Free: Lead Free; Radiation Hardening: No; Mount: Surface Mount; Capacitance: 220nF; Voltage Rating (DC): 50V; Voltage Rating: 50V; Max Operating Temperature: 125°C; Height: 1.25mm; Package Quantity: 1; Depth: 1.6mm; Min Operating Temperature: -55°C; Tolerance: 10%; Thickness: 0.055inch; Manufacturer Part Number: CL31B224KBFNNNE
footprint FP-CL31-IPC_C
footprint FP-CL31-IPC_B
footprint FP-CL31-IPC_A
pins: 1, 2

## CMP-194061-000001-1
designator MD?, comment ESP32-C3-DevKitC-02
ESP32-C3-WROOM-02 DEV BRD; Manufacturer: Espressif Systems; Manufacturer Part Number: ESP32-C3-DEVKITC-02
footprint FP-ESP32-C3-DevKitC-02-MFG
pins: 1 GND (power), 2 3V3 (power), 3 3V3 (power), 4 RST, 5 GND (power), 6 4 (io), 7 5 (io), 8 6 (io), 9 7 (io), 10 GND (power), 11 8 (io), 12 9 (io), 13 5V (power), 14 5V (power), 15 GND (power), 16 GND (power), 17 GND (power), 18 19 (io), 19 18 (io), 20 GND (power), 21 TX (io), 22 RX (io), 23 GND (power), 24 10 (io), 25 GND (power), 26 3 (io), 27 2 (io), 28 1 (io), 29 0 (io), 30 GND (power)

## CMP-194065-000003-1
designator MD?, comment ESP32-WROOM-32D
WIFI MODULE 32MBITS SPI FLASH; Manufacturer: Espressif Systems; Max Supply Voltage: 3.6V; Nominal Supply Current: 500mA; Max Frequency: 2484MHz; Number Of Adc Channels: 16; Number Of Gpio: 32; Interface: I2C,SPI,UART,Ethernet,I2S,Other; Data Rate: 150Mbits/s; Min Supply Voltage: 3V; Bandwidth: 72MHz; Sensitivity: -98dBm; Octopart: https://octopart.com/esp32-wroom-32d-espressif+systems-91040050; Package: ESP32-WROOM-32D; ComponentLink2URL: https://www.espressif.com/sites/default/files/documentation/esp32-wroom-32d_esp32-wroom-32u_datasheet_en.pdf; Lead Free: Yes; Category: UNK; Mouser Description: Wi-Fi/BT BLE Module ESP32-D0WD, SPI Flash, UART, P; Device Class L1: Integrated Circuits (ICs); RoHS: TRUE; Temperature Range Low: -40°C; ComponentLink2Description: Datasheet; Digikey Description: WIFI MODULE 32MBITS SPI FLASH; Height: 3.2mm; Temperature: -40°C to +85°C; Manufacturer Part Number: ESP32-WROOM-32D; Device Class L3: Transceivers; Device Class L2: RF Semiconductors and Devices; Temperature Range High: +85°C; Automotive: No
footprint FP-ESP32-WROOM-32D-MFG
pins: 1 GND (power), 2 3V3 (power), 3 EN (in), 4 SENSOR VP (io), 5 SENSOR VN (io), 6 IO34 (io), 7 IO35 (io), 8 IO32 (io), 9 IO33 (io), 10 IO25 (io), 11 IO26 (io), 12 IO27 (io), 13 IO14 (io), 14 IO12 (io), 15 GND (power), 16 IO13 (io), 17 SD2 (io), 18 SD3 (io), 19 CMD (io), 20 CLK (in), 21 SD0 (io), 22 SD1 (io), 23 IO15 (io), 24 IO2 (io), 25 IO0 (io), 26 IO4 (io), 27 IO16 (io), 28 IO17 (io), 29 IO5 (io), 30 IO18 (io), 31 IO19 (io), 32 NC, 33 IO21 (io), 34 RXD0 (in), 35 TXD0 (out), 36 IO22 (io), 37 IO23 (io), 38 GND (power), 39 GND (power)

## CMP-194065-000005-1
designator MD?, comment ESP32-WROVER
SMD MODULE, ESP32-D0WDQ6, 32MBIT; Manufacturer: Espressif Systems; Interface: I2C,SPI,UART,I2S,Other; Number Of Adc Channels: 16; Data Rate: 150Mbits/s; Number Of Gpio: 20; Sensitivity: -98dBm; Max Frequency: 2.5GHz; Bandwidth: 0.1GHz; Max Supply Voltage: 3.6V; Min Supply Voltage: 2.3V; Nominal Supply Current: 80mA; Height: 3.4mm; Device Class L3: Transceivers; Octopart: https://octopart.com/esp32-wrover-espressif+systems-89171348; Device Class L2: RF Semiconductors and Devices; ComponentLink2Description: Datasheet; RoHS: TRUE; Lead Free: Yes; Device Class L1: Integrated Circuits (ICs); Temperature Range High: +85°C; Digikey Description: SMD MODULE, ESP32-D0WDQ6, 32MBIT; Package: ESP32-WROVER; Mouser Description: Bluetooth and Wi-Fi Module 2.4GHz to 2.5GHz 2.3V to 3.6V 38-Pin SMD Module; Temperature: -40°C to +85°C; Category: UNK; Manufacturer Part Number: ESP32-WROVER; Automotive: No; Temperature Range Low: -40°C; ComponentLink2URL: https://forum.upverter.com/uploads/default/original/3X/1/9/19ab4f33dd815ce1b2b0bb210f0ab7d5aab1dea3.pdf
footprint FP-ESP32-WROVER-MFG
pins: 1 GND (power), 2 VDD33 (power), 3 EN (in), 4 SENSOR VP (io), 5 SENSOR VN (io), 6 IO34 (io), 7 IO35 (io), 8 IO32 (io), 9 IO33 (io), 10 IO25 (io), 11 IO26 (io), 12 IO27 (io), 13 IO14 (io), 14 IO12 (io), 15 GND (power), 16 IO13 (io), 17 SD2 (in), 18 SD3 (in), 19 CMD (in), 20 CLK (in), 21 SD0 (in), 22 SD1 (in), 23 IO15 (io), 24 IO2 (io), 25 IO0 (io), 26 IO4 (io), 27 NC, 28 NC, 29 IO5 (io), 30 IO18 (io), 31 IO19 (io), 32 NC, 33 IO21 (io), 34 RXD0 (in), 35 TXD0 (out), 36 IO22 (io), 37 IO23 (io), 38 GND (power), 39 GND (power)

## CMP-204316-000002-1
designator MD?, comment ESP-12S
RX TXRX MOD WIFI PCB TRACE SMD; Manufacturer: RF Solutions; Interface: I2C; Sensitivity: -90dBm; Data Rate: 54Mbps; Frequency: 2.484GHz; Series: -; Manufacturer Part Number: ESP-12S
footprint FP-ESP-12S-MFG
pins: 1 RST (in), 2 ADC (in), 3 EN (in), 4 IO16 (io), 5 IO14 (io), 6 IO12 (io), 7 IO13 (io), 8 VCC (power), 9 GND (power), 10 IO15 (io), 11 IO2 (io), 12 IO0 (io), 13 IO4 (io), 14 IO5 (io), 15 RXD (in), 16 TXD (out), 17 EP (power)

## CMP-209535-000001-1
designator U?, comment AMS1117-3.3
LDO Voltage Regulators 1A, 3.3V; Manufacturer: Advanced Monolithic Systems; Dropout Voltage: 1.1V; Output Type: Fixed; Nominal Supply Current: 5mA; Max Power Dissipation: 1.2W; Max Supply Voltage: 15V; Number Of Outputs: 1; Standoff Height: 0.64mm; Max Junction Temp: +125°C; Height: 1.8mm; Package: AMS1117; Device Class L2: Power Management ICs; ComponentLink2Description: Datasheet; ComponentLink2URL: http://www.advanced-monolithic.com/pdf/ds1117.pdf; Category: IC; RoHS: TRUE; Automotive: No; Device Class L1: Integrated Circuits (ICs); Output Current: 1A; Device Class L3: Voltage Regulators - Linear; Temperature: -40°C to +125°C; Output Voltage: 3.3V; Manufacturer Part Number: AMS1117-3.3; Temperature Range Low: -40°C; Octopart: https://octopart.com/ams1117-3.3-advanced+monolithic+systems-25899300; Lead Free: Yes; Ipc Land Pattern Name: SOT229P700X180-4; Temperature Range High: +125°C
footprint FP-AMS1117-IPC_C
footprint FP-AMS1117-IPC_B
footprint FP-AMS1117-IPC_A
pins: 1 Ground (power), 2 VOUT, 3 VIN (power), 4 VOUT

## esp-12f
designator IC?
Integrated Circuit; Manufacturer_Name: Ai-Thinker; Datasheet Link: https://docs.ai-thinker.com/_media/esp8266/docs/esp-12f_product_specification_en.pdf; Height: 3.1mm; Manufacturer_Part_Number: esp-12f
footprint esp12f
pins: 1 RST, 2 ADC, 3 EN, 4 GPIO16, 5 GPIO14, 6 GPIO12, 7 GPIO13, 8 VCC, 9 CS0, 10 MISO, 11 GPIO9, 12 GPIO10, 13 MOSI, 14 SCLK, 15 GND, 16 GPIO15, 17 GPIO2, 18 GPIO0, 19 GPIO4, 20 GPIO5, 21 RXD0, 22 TXD0

## ESP_Prog
designator X?, comment V1.0
Adapter für ESP-Programmer; VALUE: V1.0
footprint ESP-Prog
pins: 1 GND, 2 TX, 3 3V3, 4 RX, 5 nEN, 6 IO0

## HTL-Logo
designator Logo?  (no BOM)
footprint HTL-Logo